# Altium footprint library TRANS_220_12.PcbLib: 1 footprints
Each footprint in its own frame and in the unit in brackets; x right, y up, seen from the top. Pads: shape width x height; smd on the part's side, far side on the other; paste and mask are expansions set on the pad; w line width, h text height; cw(c..) or ccw(c..) is an arc to the next point about the centre after c.
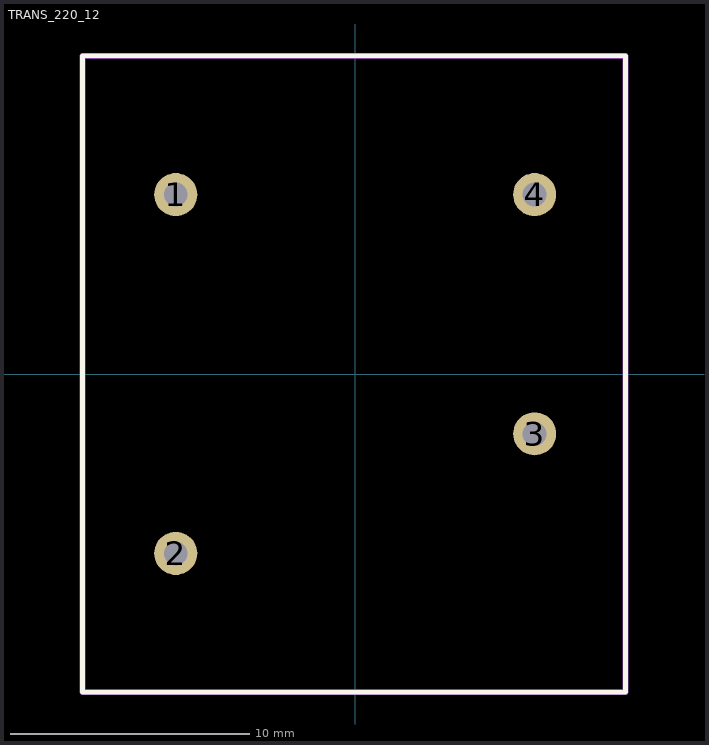
[diagram p0: the footprint, top view; thin cyan lines are the x and y axes]

## TRANS_220_12 [mm]
pads (4):
  round 1.8 hole 1: 1(-7.5,7.5) 2(-7.5,-7.5) 3(7.5,-2.5) 4(7.5,7.5)
Top Overlay:
  lines w0.2: -11.4,-13.3 -11.4,13.3 11.3,13.3 11.3,-13.3 -11.4,-13.3
Top Assembly:
  lines w0.254: -11.4,-13.3 11.3,-13.3 11.3,13.3 -11.4,13.3 -11.4,-13.3
  text "'.Designator'" at 0,0 h0.7
3D body "Транс 220-12в.STEP": height 23.7, standoff -5, extent -11.26,-13.25 11.25,13.25